# EAGLE library part RADIO (library uORocketry-parts)
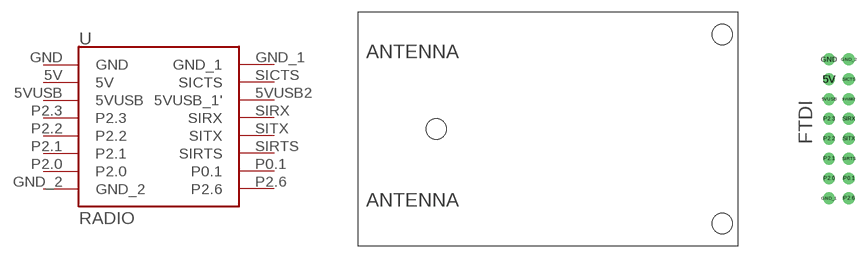
[diagram p1: symbol with the pads of RADIO; footprint RADIO]

Designator prefix -

## RADIO  [RADIO]
5V  5V
5VUSB  5VUSB
5VUSB2  5VUSB_1'
GND  GND
GND_1  GND_1
GND_2  GND_2
P0.1  P0.1
P2.0  P2.0
P2.1  P2.1
P2.2  P2.2
P2.3  P2.3
P2.6  P2.6
SICTS  SICTS
SIRTS  SIRTS
SIRX  SIRX
SITX  SITX

## Footprint RADIO (pad centres in mm)
Layout of the Radio board, including holes
drill 1.016: 5V 50.31,6.35; 5VUSB 50.31,3.81; 5VUSB2 52.85,3.81; GND 50.31,8.89; GND_1 50.31,-8.89; GND_2 52.85,8.89; P0.1 52.85,-6.35; P2.0 50.31,-6.35; P2.1 50.31,-3.81; P2.2 50.31,-1.27; P2.3 50.31,1.27; P2.6 52.85,-8.89; SICTS 52.85,6.35; SIRTS 52.85,-3.81; SIRX 52.85,1.27; SITX 52.85,-1.27
hole 2.6 at 0.02,0
hole 2.6 at 36.63,12.1
hole 2.6 at 36.63,-12.1